# Altium footprint library Revo_connector.PcbLib: 95 footprints (part 4 of 6)
Each footprint in its own frame and in the unit in brackets; x right, y up, seen from the top. Pads: shape width x height; smd on the part's side, far side on the other; paste and mask are expansions set on the pad; w line width, h text height; cw(c..) or ccw(c..) is an arc to the next point about the centre after c.
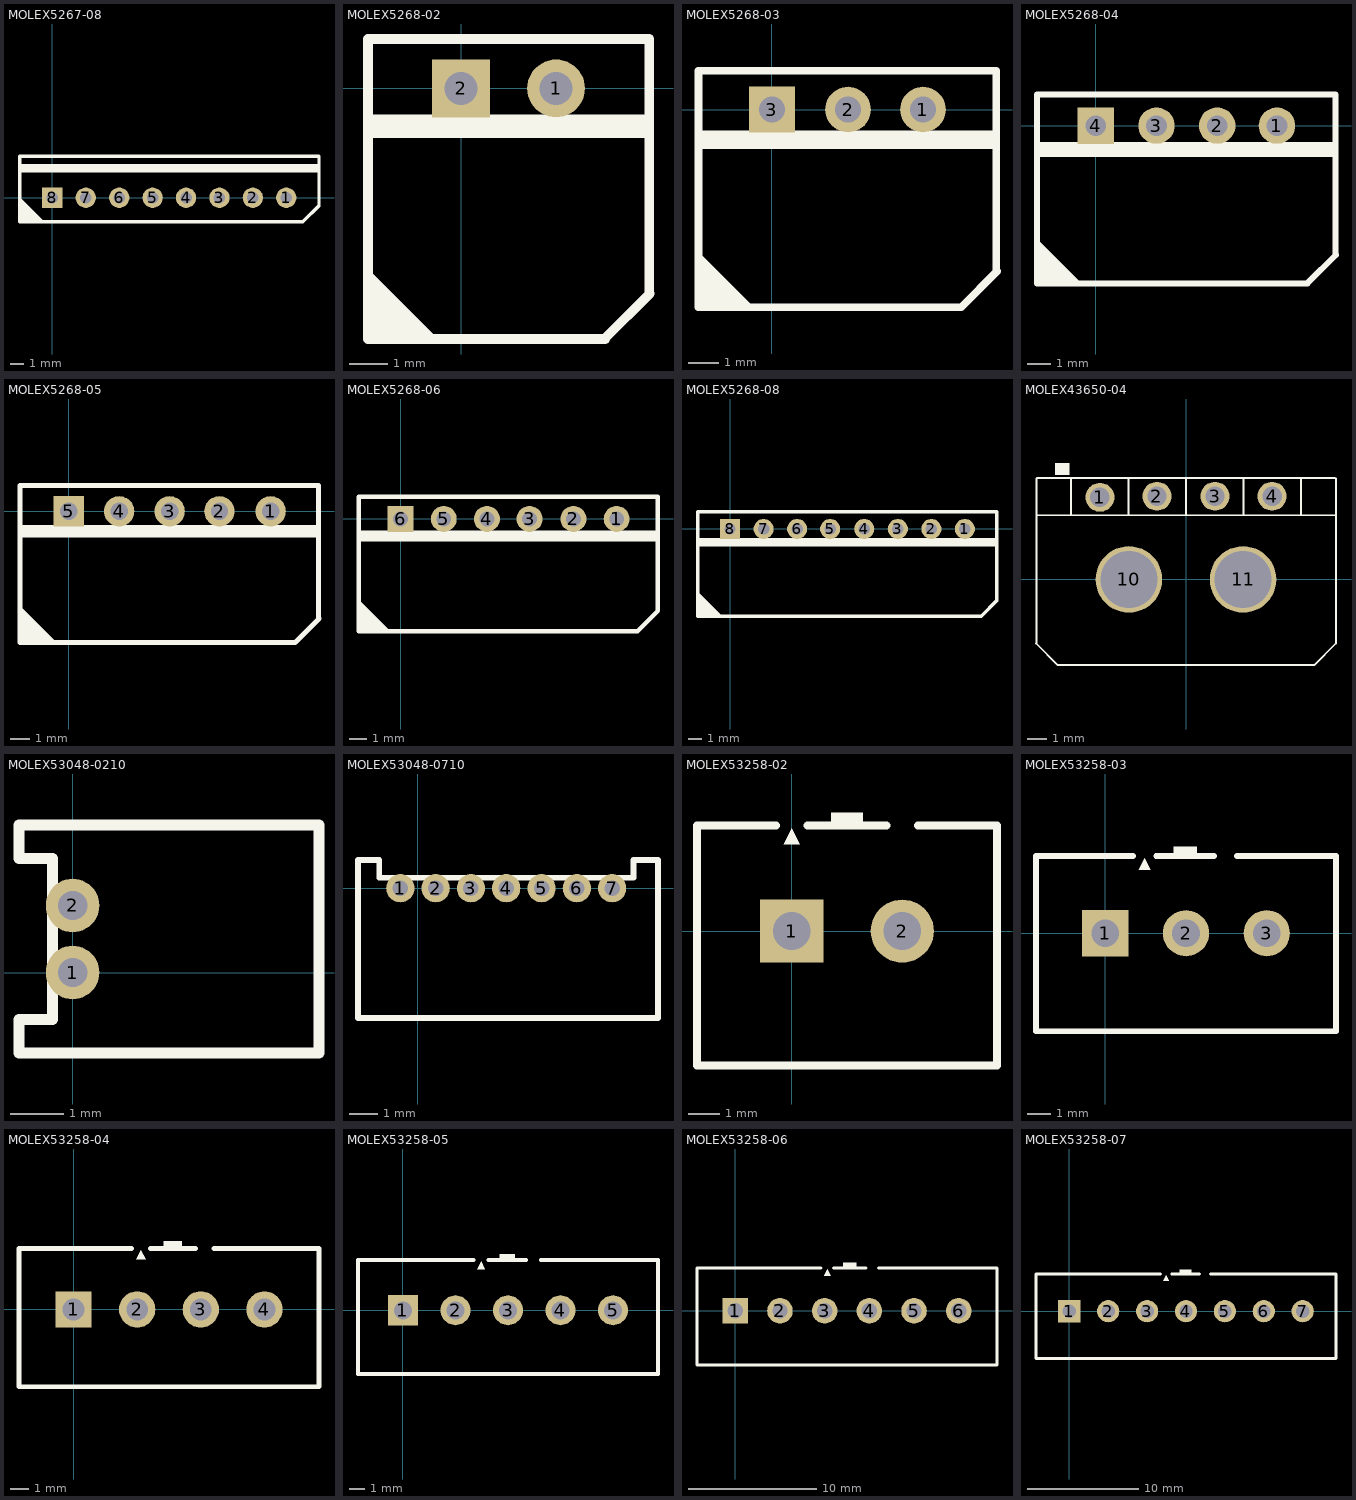
[diagram p3: the footprints below, top view; thin cyan lines are the x and y axes]

## MOLEX5267-08 [mil]
pads (8):
  round 60 hole 34: 1(688.98,0) 2(590.55,0) 3(492.13,0) 4(393.7,0) 5(295.28,0) 6(196.85,0) 7(98.43,0)
  rect 60x60 hole 34: 8(0,0)
Top Overlay:
  region: -94.49,-70.87 -23.62,-70.87 -94.49,0
  region: -98.43,74.8 783.46,74.8 783.46,98.43 -98.43,98.43
  lines w10: -96.46,-70.87 -96.46,122.05 785.43,122.05 785.43,-23.62 738.19,-70.87 -96.46,-70.87
3D body "022035085.stp": height 234.25, standoff -135.83, extent -98.43,-66.93 783.46,125.99

## MOLEX5268-02 [mil]
pads (2):
  round 60 hole 34: 1(98.43,0)
  rect 60x60 hole 34: 2(0,0)
Top Overlay:
  region: -94.49,-259.84 -23.62,-259.84 -94.49,-188.98
  region: -98.43,-51.18 192.91,-51.18 192.91,-27.56 -98.43,-27.56
  lines w10: -96.46,-259.84 -96.46,51.18 192.91,51.18 ; -94.49,-259.84 149.61,-259.84 ; 148.43,-259.84 195.67,-212.6 ; 194.88,-212.6 194.88,51.18

## MOLEX5268-03 [mil]
pads (3):
  round 60 hole 34: 1(198.43,0) 2(100,0)
  rect 60x60 hole 34: 3(0,0)
Top Overlay:
  region: -94.49,-259.84 -23.62,-259.84 -94.49,-188.98
  region: 1.57,-51.18 292.91,-51.18 292.91,-27.56 1.57,-27.56
  region: -98.43,-51.18 192.91,-51.18 192.91,-27.56 -98.43,-27.56
  lines w10: -96.46,-259.84 -96.46,51.18 294.88,51.18 294.88,-212.6 ; -94.49,-259.84 248.43,-259.84 295.67,-212.6
3D body "22057035.stp": height 194.88, standoff -135.83, extent -97.64,-260.63 292.13,50.4

## MOLEX5268-04 [mil]
pads (4):
  round 60 hole 34: 1(298.43,0) 2(200,0) 3(100,0)
  rect 60x60 hole 34: 4(0,0)
Top Overlay:
  region: -94.49,-259.84 -23.62,-259.84 -94.49,-188.98
  region: -98.43,-51.18 192.91,-51.18 192.91,-27.56 -98.43,-27.56
  region: 101.57,-51.18 392.91,-51.18 392.91,-27.56 101.57,-27.56
  lines w10: -96.46,-259.84 -96.46,51.18 394.88,51.18 394.88,-212.6 ; -94.49,-259.84 348.43,-259.84 395.67,-212.6
3D body "022057045.stp": height 194.88, standoff -135.83, extent -96.46,-258.86 391.73,52.16

## MOLEX5268-05 [mil]
pads (5):
  round 60 hole 34: 1(400,0) 2(298.43,0) 3(200,0) 4(100,0)
  rect 60x60 hole 34: 5(0,0)
Top Overlay:
  region: -94.49,-259.84 -23.62,-259.84 -94.49,-188.98
  region: 201.57,-51.18 492.91,-51.18 492.91,-27.56 201.57,-27.56
  region: -98.43,-51.18 192.91,-51.18 192.91,-27.56 -98.43,-27.56
  region: 101.57,-51.18 392.91,-51.18 392.91,-27.56 101.57,-27.56
  lines w10: -96.46,-259.84 -96.46,51.18 494.88,51.18 494.88,-212.6 ; -94.49,-259.84 448.43,-259.84 495.67,-212.6

## MOLEX5268-06 [mil]
pads (6):
  round 60 hole 34: 1(500,0) 2(400,0) 3(298.43,0) 4(200,0) 5(100,0)
  rect 60x60 hole 34: 6(0,0)
Top Overlay:
  region: 101.57,-51.18 392.91,-51.18 392.91,-27.56 101.57,-27.56
  region: -98.43,-51.18 192.91,-51.18 192.91,-27.56 -98.43,-27.56
  region: 301.57,-51.18 592.91,-51.18 592.91,-27.56 301.57,-27.56
  region: -94.49,-259.84 -23.62,-259.84 -94.49,-188.98
  lines w10: -96.46,-259.84 -96.46,51.18 594.88,51.18 594.88,-212.6 ; -94.49,-259.84 548.43,-259.84 595.67,-212.6

## MOLEX5268-08 [mil]
pads (8):
  round 60 hole 34: 1(700,0) 2(600,0) 3(500,0) 4(400,0) 5(298.43,0) 6(200,0) 7(100,0)
  rect 60x60 hole 34: 8(0,0)
Top Overlay:
  region: -94.49,-259.84 -23.62,-259.84 -94.49,-188.98
  region: 301.57,-51.18 592.91,-51.18 592.91,-27.56 301.57,-27.56
  region: 501.57,-51.18 792.91,-51.18 792.91,-27.56 501.57,-27.56
  region: -98.43,-51.18 192.91,-51.18 192.91,-27.56 -98.43,-27.56
  region: 101.57,-51.18 392.91,-51.18 392.91,-27.56 101.57,-27.56
  lines w10: -96.46,-259.84 -96.46,51.18 794.88,51.18 794.88,-212.6 ; -94.49,-259.84 748.43,-259.84 795.67,-212.6

## MOLEX43650-04 [mm]
pads (6):
  round 1.52 hole 1.02: 1(-4.525,4.32) 2(-1.525,4.375) 3(1.525,4.375) 4(4.525,4.375)
  round 3.5 hole 3: 10(-3,0) 11(3,0)
Top Overlay:
  rectangle: -6.875,5.5 -6.125,6.125
  lines w0.1: -7.887,-3.363 -6.75,-4.5 6.75,-4.5 ; -7.863,-3.375 -7.863,5.318 ; -7.825,5.325 7.825,5.325 ; -7.775,3.375 7.875,3.375 ; -6.05,3.375 -6.05,5.25 ; -3.025,3.375 -3.025,5.25 ; 0,3.45 0,5.325 ; 3.025,3.375 3.025,5.25 ; 6.05,3.375 6.05,5.25 ; 6.125,-4.5 6.75,-4.5 ; 7.887,5.318 7.887,-3.363 6.75,-4.5
3D body "436500400.stp": height 5.64, standoff -3.27, extent -7.825,-4.575 7.825,5.325

## MOLEX53048-0210 [mm]
pads (2):
  round 1 hole 0.55: 1(0,0) 2(0,1.25)
Top Overlay:
  lines w0.203: -1,-1.5 4.597,-1.5 4.597,2.75 -1,2.75 -1,2.125 -0.375,2.125 -0.375,-0.875 -1,-0.875 -1,-1.5
3D body "User Library-molex 53048.step": height 3.55, standoff -2.25, extent -1.05,-1.5 4.45,2.75

## MOLEX53048-0710 [mm] "battery connector"
pads (7):
  round 1 hole 0.55: 1(-0.625,0) 2(0.625,0) 3(1.875,0) 4(3.125,0) 5(4.375,0) 6(5.625,0) 7(6.875,0)
Top Overlay:
  lines w0.203: -2.125,-4.597 -2.125,1 -1.37,1 -1.37,0.375 7.635,0.375 7.635,1 8.5,1 8.5,-4.597 -2.125,-4.597
3D body "530480710.stp": height 3.52, standoff -2.28, extent -2.12,-4.455 8.38,1.045

## MOLEX53258-02 [mm]
pads (2):
  rect 2x2 hole 1.2: 1(0,0)
  round 2 hole 1.2: 2(3.5,0)
Top Overlay:
  region: -0.25,2.75 0.25,2.75 0,3.25
  region: 2.25,3.25 2.25,3.75 1.25,3.75 1.25,3.25
  lines w0.254: -0.5,3.35 -3,3.35 -3,-4.25 6.5,-4.25 6.5,3.35 4,3.35 ; 0.5,3.35 3,3.35

## MOLEX53258-03 [mm]
pads (3):
  rect 2x2 hole 1.2: 1(0,0)
  round 2 hole 1.2: 2(3.5,0) 3(7,0)
Top Overlay:
  region: 3.96,3.25 3.96,3.75 2.96,3.75 2.96,3.25
  region: 1.46,2.75 1.96,2.75 1.71,3.25
  lines w0.254: -1.29,3.35 1.21,3.35 ; -1.25,3.35 -3,3.35 -3,-4.25 10,-4.25 10,3.35 8.25,3.35 ; 2.21,3.35 4.71,3.35 ; 5.71,3.35 8.21,3.35

## MOLEX53258-04 [mm]
pads (4):
  rect 2x2 hole 1.2: 1(0,0)
  round 2 hole 1.2: 2(3.5,0) 3(7,0) 4(10.5,0)
Top Overlay:
  region: 5.96,3.25 5.96,3.75 4.96,3.75 4.96,3.25
  region: 3.46,2.75 3.96,2.75 3.71,3.25
  lines w0.254: -2.5,3.35 -0.75,3.35 ; -1.25,3.35 -3,3.35 -3,-4.25 13.5,-4.25 13.5,3.35 11.75,3.35 ; -1,3.35 0.75,3.35 ; 0.71,3.35 3.21,3.35 ; 4.21,3.35 6.71,3.35 ; 7.71,3.35 10.21,3.35 ; 9.75,3.35 11.5,3.35 ; 10.75,3.35 12.5,3.35

## MOLEX53258-05 [mm]
pads (5):
  rect 2x2 hole 1.2: 1(0,0)
  round 2 hole 1.2: 2(3.5,0) 3(7,0) 4(10.5,0) 5(14,0)
Top Overlay:
  region: 4.96,2.75 5.46,2.75 5.21,3.25
  region: 7.46,3.25 7.46,3.75 6.46,3.75 6.46,3.25
  lines w0.254: -2.5,3.35 -0.75,3.35 ; -1.25,3.35 -3,3.35 -3,-4.25 17,-4.25 17,3.35 15.25,3.35 ; -1,3.35 0.75,3.35 ; 0.71,3.35 3.21,3.35 ; 2.21,3.35 4.71,3.35 ; 5.71,3.35 8.21,3.35 ; 9.21,3.35 11.71,3.35 ; 11.25,3.35 13,3.35 ; 12.75,3.35 14.5,3.35 ; 14.25,3.35 16,3.35

## MOLEX53258-06 [mm]
pads (6):
  rect 2x2 hole 1.2: 1(0,0)
  round 2 hole 1.2: 2(3.5,0) 3(7,0) 4(10.5,0) 5(14,0) 6(17.5,0)
Top Overlay:
  region: 9.46,3.25 9.46,3.75 8.46,3.75 8.46,3.25
  region: 6.96,2.75 7.46,2.75 7.21,3.25
  lines w0.254: -1.5,3.35 0.25,3.35 ; -1.25,3.35 -3,3.35 -3,-4.25 20.5,-4.25 20.5,3.35 18.75,3.35 ; 0,3.35 1.75,3.35 ; 1.71,3.35 4.21,3.35 6.71,3.35 ; 7.71,3.35 10.21,3.35 ; 11.21,3.35 13.71,3.35 ; 13.25,3.35 15,3.35 ; 14.25,3.35 16,3.35 ; 15.75,3.35 17.5,3.35 ; 17.25,3.35 19,3.35

## MOLEX53258-07 [mm]
pads (7):
  rect 2x2 hole 1.2: 1(0,0)
  round 2 hole 1.2: 2(3.5,0) 3(7,0) 4(10.5,0) 5(14,0) 6(17.5,0) 7(21,0)
Top Overlay:
  region: 8.46,2.75 8.96,2.75 8.71,3.25
  region: 10.96,3.25 10.96,3.75 9.96,3.75 9.96,3.25
  lines w0.254: -1.5,3.35 0.25,3.35 ; -1.25,3.35 -3,3.35 -3,-4.25 24,-4.25 24,3.35 22.25,3.35 ; 0,3.35 1.75,3.35 ; 1.71,3.35 4.21,3.35 ; 3.71,3.35 6.21,3.35 ; 5.71,3.35 8.21,3.35 ; 9.21,3.35 11.71,3.35 ; 12.71,3.35 15.21,3.35 ; 14.75,3.35 16.5,3.35 ; 16.25,3.35 18,3.35 ; 17.75,3.35 19.5,3.35 ; 19.25,3.35 21,3.35 ; 20.75,3.35 22.5,3.35